# Altium schematic symbol library BA.SchLib: 2 symbols
Pins are listed as number, name and electrical type; pins without a type are passive.

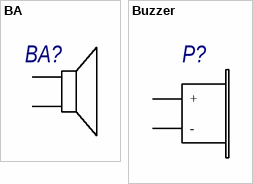
[diagram p0: symbols BA to Buzzer]

## BA
designator BA?  (value not drawn)
pins: 0, 1

## Buzzer
designator P?
pins: 1 +, 2 -